# Altium schematic symbol library Sch_Kingbright.SchLib: 1 symbol
Pins are listed as number, name and electrical type; pins without a type are passive.

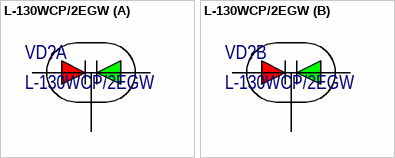
[diagram p0: symbol L-130WCP/2EGW]

## L-130WCP/2EGW
designator VD?
T-1 (3 mm) Bi-Level Circuit Board Indicator; Manufacturer: Kingbright; Part Number: L-130WCP/2EGW
footprint L-130WCP (T-1 (3 mm) Bi-Level Circuit Board Indicator)
part A pins: 1, 2, 3
part B pins: 4, 5, 6